# Altium footprint library RMelf0204.PcbLib: 1 footprints
Each footprint in its own frame and in the unit in brackets; x right, y up, seen from the top. Pads: shape width x height; smd on the part's side, far side on the other; paste and mask are expansions set on the pad; w line width, h text height; cw(c..) or ccw(c..) is an arc to the next point about the centre after c.
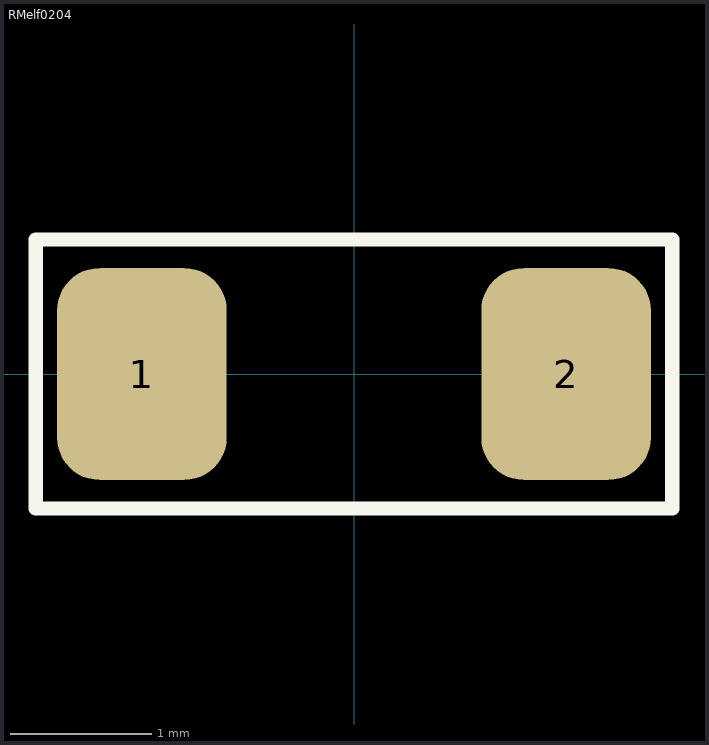
[diagram p0: the footprint, top view; thin cyan lines are the x and y axes]

## RMelf0204 [mm]
height 0.55
pads (2):
  rrect50% 1.2x1.5 smd: 1(-1.5,0) 2(1.5,0)
Top Overlay:
  lines w0.1: -2.25,-0.95 2.25,-0.95 2.25,0.95 -2.25,0.95 -2.25,-0.95
3D body "Melf-0204.STEP": height 1.4, standoff 0, extent -1.7,-0.7 1.7,0.7